# Altium schematic symbol library K66BLEZ1.SchLib: 1 symbol
Pins are listed as number, name and electrical type; pins without a type are passive.

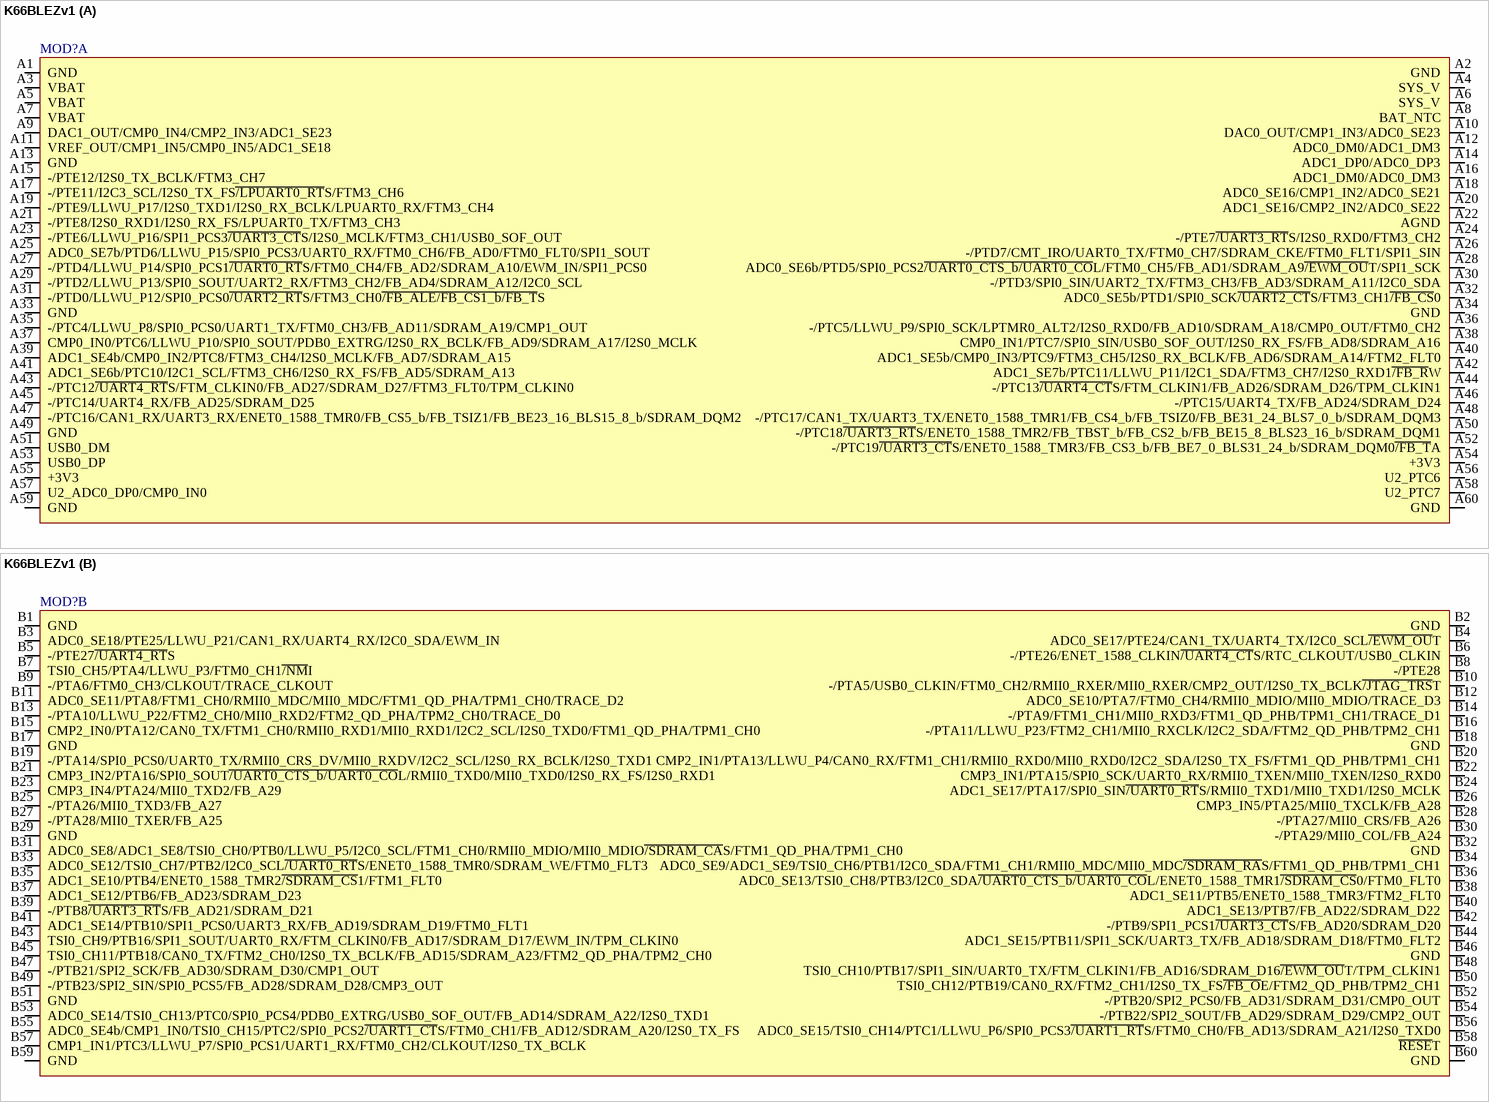
[diagram p0: symbol K66BLEZv1]

## K66BLEZv1
designator MOD?  (value not drawn)
K66BLEZv1; Manufacturer: BARDUVA; PartName: K66BLEZv1
footprint K66BLEZv1.0
part A pins: A1 GND, A2 GND, A3 VBAT "+3.3V", A4 SYS_V "+3.3V", A5 VBAT "+3.3V", A6 SYS_V "+3.3V", A7 VBAT "+5V", A8 BAT_NTC "+5V", A9 DAC1_OUT/CMP0_IN4/CMP2_IN3/ADC1_SE23 (io) "Default=(DAC1_OUT/CMP0_IN4/CMP2_IN3/ADC1_SE23)  ALT0=(DAC1_OUT/CMP0_IN4/CMP2_IN3/ADC1_SE23)  ALT1=()  ALT2=()  ALT3=()  ALT4=()  ALT5=()  ALT6=()  ALT7=()  EZPort=()", A10 DAC0_OUT/CMP1_IN3/ADC0_SE23 (io) "Default=(DAC0_OUT/CMP1_IN3/ADC0_SE23)  ALT0=(DAC0_OUT/CMP1_IN3/ADC0_SE23)  ALT1=()  ALT2=()  ALT3=()  ALT4=()  ALT5=()  ALT6=()  ALT7=()  EZPort=()", A11 VREF_OUT/CMP1_IN5/CMP0_IN5/ADC1_SE18 (io) "Default=(VREF_OUT/CMP1_IN5/CMP0_IN5/ADC1_SE18)  ALT0=(VREF_OUT/CMP1_IN5/CMP0_IN5/ADC1_SE18)  ALT1=()  ALT2=()  ALT3=()  ALT4=()  ALT5=()  ALT6=()  ALT7=()  EZPort=()", A12 ADC0_DM0/ADC1_DM3 (io) "Default=(ADC0_DM0/ADC1_DM3)  ALT0=(ADC0_DM0/ADC1_DM3)  ALT1=()  ALT2=()  ALT3=()  ALT4=()  ALT5=()  ALT6=()  ALT7=()  EZPort=()", A13 GND "+5V", A14 ADC1_DP0/ADC0_DP3 (io) "Default=(ADC1_DP0/ADC0_DP3)  ALT0=(ADC1_DP0/ADC0_DP3)  ALT1=()  ALT2=()  ALT3=()  ALT4=()  ALT5=()  ALT6=()  ALT7=()  EZPort=()", A15 -/PTE12/I2S0_TX_BCLK/FTM3_CH7 (io) "Default=(DISABLED)  ALT0=()  ALT1=(PTE12)  ALT2=()  ALT3=()  ALT4=(I2S0_TX_BCLK)  ALT5=()  ALT6=(FTM3_CH7)  ALT7=()  EZPort=()", A16 ADC1_DM0/ADC0_DM3 (io) "Default=(ADC1_DM0/ADC0_DM3)  ALT0=(ADC1_DM0/ADC0_DM3)  ALT1=()  ALT2=()  ALT3=()  ALT4=()  ALT5=()  ALT6=()  ALT7=()  EZPort=()", A17 -/PTE11/I2C3_SCL/I2S0_TX_FS~{/LPUART0_RT}S/FTM3_CH6 (io) "Default=(DISABLED)  ALT0=()  ALT1=(PTE11)  ALT2=(I2C3_SCL)  ALT3=()  ALT4=(I2S0_TX_FS)  ALT5=(LPUART0_RTS_b)  ALT6=(FTM3_CH6)  ALT7=()  EZPort=()", A18 ADC0_SE16/CMP1_IN2/ADC0_SE21 (io) "Default=(ADC0_SE16/CMP1_IN2/ADC0_SE21)  ALT0=(ADC0_SE16/CMP1_IN2/ADC0_SE21)  ALT1=()  ALT2=()  ALT3=()  ALT4=()  ALT5=()  ALT6=()  ALT7=()  EZPort=()", A19 -/PTE9/LLWU_P17/I2S0_TXD1/I2S0_RX_BCLK/LPUART0_RX/FTM3_CH4 (io) "Default=(DISABLED)  ALT0=()  ALT1=(PTE9/LLWU_P17)  ALT2=(I2S0_TXD1)  ALT3=()  ALT4=(I2S0_RX_BCLK)  ALT5=(LPUART0_RX)  ALT6=(FTM3_CH4)  ALT7=()  EZPort=()", A20 ADC1_SE16/CMP2_IN2/ADC0_SE22 (io) "Default=(ADC1_SE16/CMP2_IN2/ADC0_SE22)  ALT0=(ADC1_SE16/CMP2_IN2/ADC0_SE22)  ALT1=()  ALT2=()  ALT3=()  ALT4=()  ALT5=()  ALT6=()  ALT7=()  EZPort=()", A21 -/PTE8/I2S0_RXD1/I2S0_RX_FS/LPUART0_TX/FTM3_CH3 (io) "Default=(DISABLED)  ALT0=()  ALT1=(PTE8)  ALT2=(I2S0_RXD1)  ALT3=()  ALT4=(I2S0_RX_FS)  ALT5=(LPUART0_TX)  ALT6=(FTM3_CH3)  ALT7=()  EZPort=()", A22 AGND "GND", A23 -/PTE6/LLWU_P16/SPI1_PCS3~{/UART3_CT}S/I2S0_MCLK/FTM3_CH1/USB0_SOF_OUT (io) "Default=(DISABLED)  ALT0=()  ALT1=(PTE6/LLWU_P16)  ALT2=(SPI1_PCS3)  ALT3=(UART3_CTS_b)  ALT4=(I2S0_MCLK)  ALT5=()  ALT6=(FTM3_CH1)  ALT7=(USB0_SOF_OUT)  EZPort=()", A24 -/PTE7~{/UART3_RT}S/I2S0_RXD0/FTM3_CH2 (io) "Default=(DISABLED)  ALT0=()  ALT1=(PTE7)  ALT2=()  ALT3=(UART3_RTS_b)  ALT4=(I2S0_RXD0)  ALT5=()  ALT6=(FTM3_CH2)  ALT7=()  EZPort=()", A25 ADC0_SE7b/PTD6/LLWU_P15/SPI0_PCS3/UART0_RX/FTM0_CH6/FB_AD0/FTM0_FLT0/SPI1_SOUT (io) "Default=(ADC0_SE7b)  ALT0=(ADC0_SE7b)  ALT1=(PTD6/LLWU_P15)  ALT2=(SPI0_PCS3)  ALT3=(UART0_RX)  ALT4=(FTM0_CH6)  ALT5=(FB_AD0)  ALT6=(FTM0_FLT0)  ALT7=(SPI1_SOUT)  EZPort=()", A26 -/PTD7/CMT_IRO/UART0_TX/FTM0_CH7/SDRAM_CKE/FTM0_FLT1/SPI1_SIN (io) "Default=(DISABLED)  ALT0=()  ALT1=(PTD7)  ALT2=(CMT_IRO)  ALT3=(UART0_TX)  ALT4=(FTM0_CH7)  ALT5=(SDRAM_CKE)  ALT6=(FTM0_FLT1)  ALT7=(SPI1_SIN)  EZPort=()", A27 -/PTD4/LLWU_P14/SPI0_PCS1~{/UART0_RT}S/FTM0_CH4/FB_AD2/SDRAM_A10/EWM_IN/SPI1_PCS0 (io) "Default=(DISABLED)  ALT0=()  ALT1=(PTD4/LLWU_P14)  ALT2=(SPI0_PCS1)  ALT3=(UART0_RTS_b)  ALT4=(FTM0_CH4)  ALT5=(FB_AD2/SDRAM_A10)  ALT6=(EWM_IN)  ALT7=(SPI1_PCS0)  EZPort=()", A28 ADC0_SE6b/PTD5/SPI0_PCS2~{/UART0_CTS_b/UART0_CO}L/FTM0_CH5/FB_AD1/SDRAM_A9~{/EWM_OU}T/SPI1_SCK (io) "Default=(ADC0_SE6b)  ALT0=(ADC0_SE6b)  ALT1=(PTD5)  ALT2=(SPI0_PCS2)  ALT3=(UART0_CTS_b/UART0_COL_b)  ALT4=(FTM0_CH5)  ALT5=(FB_AD1/SDRAM_A9)  ALT6=(EWM_OUT_b)  ALT7=(SPI1_SCK)  EZPort=()", A29 -/PTD2/LLWU_P13/SPI0_SOUT/UART2_RX/FTM3_CH2/FB_AD4/SDRAM_A12/I2C0_SCL (io) "Default=(DISABLED)  ALT0=()  ALT1=(PTD2/LLWU_P13)  ALT2=(SPI0_SOUT)  ALT3=(UART2_RX)  ALT4=(FTM3_CH2)  ALT5=(FB_AD4/SDRAM_A12)  ALT6=()  ALT7=(I2C0_SCL)  EZPort=()", A30 -/PTD3/SPI0_SIN/UART2_TX/FTM3_CH3/FB_AD3/SDRAM_A11/I2C0_SDA (io) "Default=(DISABLED)  ALT0=()  ALT1=(PTD3)  ALT2=(SPI0_SIN)  ALT3=(UART2_TX)  ALT4=(FTM3_CH3)  ALT5=(FB_AD3/SDRAM_A11)  ALT6=()  ALT7=(I2C0_SDA)  EZPort=()", A31 -/PTD0/LLWU_P12/SPI0_PCS0~{/UART2_RT}S/FTM3_CH0~{/FB_ALE/FB_CS1_b/FB_T}S (io) "Default=(DISABLED)  ALT0=()  ALT1=(PTD0/LLWU_P12)  ALT2=(SPI0_PCS0)  ALT3=(UART2_RTS_b)  ALT4=(FTM3_CH0)  ALT5=(FB_ALE/FB_CS1_b/FB_TS_b)  ALT6=()  ALT7=()  EZPort=()", A32 ADC0_SE5b/PTD1/SPI0_SCK~{/UART2_CT}S/FTM3_CH1~{/FB_CS}0 (io) "Default=(ADC0_SE5b)  ALT0=(ADC0_SE5b)  ALT1=(PTD1)  ALT2=(SPI0_SCK)  ALT3=(UART2_CTS_b)  ALT4=(FTM3_CH1)  ALT5=(FB_CS0_b)  ALT6=()  ALT7=()  EZPort=()", A33 GND "+5V", A34 GND, A35 -/PTC4/LLWU_P8/SPI0_PCS0/UART1_TX/FTM0_CH3/FB_AD11/SDRAM_A19/CMP1_OUT (io) "Default=(DISABLED)  ALT0=()  ALT1=(PTC4/LLWU_P8)  ALT2=(SPI0_PCS0)  ALT3=(UART1_TX)  ALT4=(FTM0_CH3)  ALT5=(FB_AD11/SDRAM_A19)  ALT6=(CMP1_OUT)  ALT7=()  EZPort=()", A36 -/PTC5/LLWU_P9/SPI0_SCK/LPTMR0_ALT2/I2S0_RXD0/FB_AD10/SDRAM_A18/CMP0_OUT/FTM0_CH2 (io) "Default=(DISABLED)  ALT0=()  ALT1=(PTC5/LLWU_P9)  ALT2=(SPI0_SCK)  ALT3=(LPTMR0_ALT2)  ALT4=(I2S0_RXD0)  ALT5=(FB_AD10/SDRAM_A18)  ALT6=(CMP0_OUT)  ALT7=(FTM0_CH2)  EZPort=()", A37 CMP0_IN0/PTC6/LLWU_P10/SPI0_SOUT/PDB0_EXTRG/I2S0_RX_BCLK/FB_AD9/SDRAM_A17/I2S0_MCLK (io) "Default=(CMP0_IN0)  ALT0=(CMP0_IN0)  ALT1=(PTC6/LLWU_P10)  ALT2=(SPI0_SOUT)  ALT3=(PDB0_EXTRG)  ALT4=(I2S0_RX_BCLK)  ALT5=(FB_AD9/SDRAM_A17)  ALT6=(I2S0_MCLK)  ALT7=()  EZPort=()", A38 CMP0_IN1/PTC7/SPI0_SIN/USB0_SOF_OUT/I2S0_RX_FS/FB_AD8/SDRAM_A16 (io) "Default=(CMP0_IN1)  ALT0=(CMP0_IN1)  ALT1=(PTC7)  ALT2=(SPI0_SIN)  ALT3=(USB0_SOF_OUT)  ALT4=(I2S0_RX_FS)  ALT5=(FB_AD8/SDRAM_A16)  ALT6=()  ALT7=()  EZPort=()", A39 ADC1_SE4b/CMP0_IN2/PTC8/FTM3_CH4/I2S0_MCLK/FB_AD7/SDRAM_A15 (io) "Default=(ADC1_SE4b/CMP0_IN2)  ALT0=(ADC1_SE4b/CMP0_IN2)  ALT1=(PTC8)  ALT2=()  ALT3=(FTM3_CH4)  ALT4=(I2S0_MCLK)  ALT5=(FB_AD7/SDRAM_A15)  ALT6=()  ALT7=()  EZPort=()", A40 ADC1_SE5b/CMP0_IN3/PTC9/FTM3_CH5/I2S0_RX_BCLK/FB_AD6/SDRAM_A14/FTM2_FLT0 (io) "Default=(ADC1_SE5b/CMP0_IN3)  ALT0=(ADC1_SE5b/CMP0_IN3)  ALT1=(PTC9)  ALT2=()  ALT3=(FTM3_CH5)  ALT4=(I2S0_RX_BCLK)  ALT5=(FB_AD6/SDRAM_A14)  ALT6=(FTM2_FLT0)  ALT7=()  EZPort=()", A41 ADC1_SE6b/PTC10/I2C1_SCL/FTM3_CH6/I2S0_RX_FS/FB_AD5/SDRAM_A13 (io) "Default=(ADC1_SE6b)  ALT0=(ADC1_SE6b)  ALT1=(PTC10)  ALT2=(I2C1_SCL)  ALT3=(FTM3_CH6)  ALT4=(I2S0_RX_FS)  ALT5=(FB_AD5/SDRAM_A13)  ALT6=()  ALT7=()  EZPort=()", A42 ADC1_SE7b/PTC11/LLWU_P11/I2C1_SDA/FTM3_CH7/I2S0_RXD1~{/FB_R}W (io) "Default=(ADC1_SE7b)  ALT0=(ADC1_SE7b)  ALT1=(PTC11/LLWU_P11)  ALT2=(I2C1_SDA)  ALT3=(FTM3_CH7)  ALT4=(I2S0_RXD1)  ALT5=(FB_RW_b)  ALT6=()  ALT7=()  EZPort=()", A43 -/PTC12~{/UART4_RT}S/FTM_CLKIN0/FB_AD27/SDRAM_D27/FTM3_FLT0/TPM_CLKIN0 (io) "Default=(DISABLED)  ALT0=()  ALT1=(PTC12)  ALT2=()  ALT3=(UART4_RTS_b)  ALT4=(FTM_CLKIN0)  ALT5=(FB_AD27/SDRAM_D27)  ALT6=(FTM3_FLT0)  ALT7=(TPM_CLKIN0)  EZPort=()", A44 -/PTC13~{/UART4_CT}S/FTM_CLKIN1/FB_AD26/SDRAM_D26/TPM_CLKIN1 (io) "Default=(DISABLED)  ALT0=()  ALT1=(PTC13)  ALT2=()  ALT3=(UART4_CTS_b)  ALT4=(FTM_CLKIN1)  ALT5=(FB_AD26/SDRAM_D26)  ALT6=()  ALT7=(TPM_CLKIN1)  EZPort=()", A45 -/PTC14/UART4_RX/FB_AD25/SDRAM_D25 (io) "Default=(DISABLED)  ALT0=()  ALT1=(PTC14)  ALT2=()  ALT3=(UART4_RX)  ALT4=()  ALT5=(FB_AD25/SDRAM_D25)  ALT6=()  ALT7=()  EZPort=()", A46 -/PTC15/UART4_TX/FB_AD24/SDRAM_D24 (io) "Default=(DISABLED)  ALT0=()  ALT1=(PTC15)  ALT2=()  ALT3=(UART4_TX)  ALT4=()  ALT5=(FB_AD24/SDRAM_D24)  ALT6=()  ALT7=()  EZPort=()", A47 -/PTC16/CAN1_RX/UART3_RX/ENET0_1588_TMR0/FB_CS5_b/FB_TSIZ1/FB_BE23_16_BLS15_8_b/SDRAM_DQM2 (io) "Default=(DISABLED)  ALT0=()  ALT1=(PTC16)  ALT2=(CAN1_RX)  ALT3=(UART3_RX)  ALT4=(ENET0_1588_TMR0)  ALT5=(FB_CS5_b/FB_TSIZ1/FB_BE23_16_BLS15_8_b/SDRAM_DQM2)  ALT6=()  ALT7=()  EZPort=()", A48 -/PTC17/CAN1_TX/UART3_TX/ENET0_1588_TMR1/FB_CS4_b/FB_TSIZ0/FB_BE31_24_BLS7_0_b/SDRAM_DQM3 (io) "Default=(DISABLED)  ALT0=()  ALT1=(PTC17)  ALT2=(CAN1_TX)  ALT3=(UART3_TX)  ALT4=(ENET0_1588_TMR1)  ALT5=(FB_CS4_b/FB_TSIZ0/FB_BE31_24_BLS7_0_b/SDRAM_DQM3)  ALT6=()  ALT7=()  EZPort=()", A49 GND "+5V", A50 -/PTC18~{/UART3_RT}S/ENET0_1588_TMR2/FB_TBST_b/FB_CS2_b/FB_BE15_8_BLS23_16_b/SDRAM_DQM1 (io) "Default=(DISABLED)  ALT0=()  ALT1=(PTC18)  ALT2=()  ALT3=(UART3_RTS_b)  ALT4=(ENET0_1588_TMR2)  ALT5=(FB_TBST_b/FB_CS2_b/FB_BE15_8_BLS23_16_b/SDRAM_DQM1)  ALT6=()  ALT7=()  EZPort=()", A51 USB0_DM (io) "Default=(USB0_DM)  ALT0=(USB0_DM)  ALT1=()  ALT2=()  ALT3=()  ALT4=()  ALT5=()  ALT6=()  ALT7=()  EZPort=()", A52 -/PTC19~{/UART3_CT}S/ENET0_1588_TMR3/FB_CS3_b/FB_BE7_0_BLS31_24_b/SDRAM_DQM0~{/FB_T}A (io) "Default=(DISABLED)  ALT0=()  ALT1=(PTC19)  ALT2=()  ALT3=(UART3_CTS_b)  ALT4=(ENET0_1588_TMR3)  ALT5=(FB_CS3_b/FB_BE7_0_BLS31_24_b/SDRAM_DQM0)  ALT6=(FB_TA_b)  ALT7=()  EZPort=()", A53 USB0_DP (io) "Default=(USB0_DP)  ALT0=(USB0_DP)  ALT1=()  ALT2=()  ALT3=()  ALT4=()  ALT5=()  ALT6=()  ALT7=()  EZPort=()", A54 +3V3 "GND", A55 +3V3 "+5V", A56 U2_PTC6 "GND", A57 U2_ADC0_DP0/CMP0_IN0 "+5V", A58 U2_PTC7 "GND", A59 GND "+5V", A60 GND
part B pins: B1 GND, B2 GND, B3 ADC0_SE18/PTE25/LLWU_P21/CAN1_RX/UART4_RX/I2C0_SDA/EWM_IN (io) "Default=(ADC0_SE18)  ALT0=(ADC0_SE18)  ALT1=(PTE25/LLWU_P21)  ALT2=(CAN1_RX)  ALT3=(UART4_RX)  ALT4=()  ALT5=(I2C0_SDA)  ALT6=(EWM_IN)  ALT7=()  EZPort=()", B4 ADC0_SE17/PTE24/CAN1_TX/UART4_TX/I2C0_SCL~{/EWM_OU}T (io) "Default=(ADC0_SE17)  ALT0=(ADC0_SE17)  ALT1=(PTE24)  ALT2=(CAN1_TX)  ALT3=(UART4_TX)  ALT4=()  ALT5=(I2C0_SCL)  ALT6=(EWM_OUT_b)  ALT7=()  EZPort=()", B5 -/PTE27~{/UART4_RT}S (io) "Default=(DISABLED)  ALT0=()  ALT1=(PTE27)  ALT2=()  ALT3=(UART4_RTS_b)  ALT4=()  ALT5=()  ALT6=()  ALT7=()  EZPort=()", B6 -/PTE26/ENET_1588_CLKIN~{/UART4_CT}S/RTC_CLKOUT/USB0_CLKIN (io) "Default=(DISABLED)  ALT0=()  ALT1=(PTE26)  ALT2=(ENET_1588_CLKIN)  ALT3=(UART4_CTS_b)  ALT4=()  ALT5=()  ALT6=(RTC_CLKOUT)  ALT7=(USB0_CLKIN)  EZPort=()", B7 TSI0_CH5/PTA4/LLWU_P3/FTM0_CH1~{/NM}I (io) "Default=(NMI_b/EZP_CS_b)  ALT0=(TSI0_CH5)  ALT1=(PTA4/LLWU_P3)  ALT2=()  ALT3=(FTM0_CH1)  ALT4=()  ALT5=()  ALT6=()  ALT7=(NMI_b)  EZPort=(EZP_CS_b)", B8 -/PTE28 (io) "Default=(DISABLED)  ALT0=()  ALT1=(PTE28)  ALT2=()  ALT3=()  ALT4=()  ALT5=()  ALT6=()  ALT7=()  EZPort=()", B9 -/PTA6/FTM0_CH3/CLKOUT/TRACE_CLKOUT (io) "Default=(DISABLED)  ALT0=()  ALT1=(PTA6)  ALT2=()  ALT3=(FTM0_CH3)  ALT4=()  ALT5=(CLKOUT)  ALT6=()  ALT7=(TRACE_CLKOUT)  EZPort=()", B10 -/PTA5/USB0_CLKIN/FTM0_CH2/RMII0_RXER/MII0_RXER/CMP2_OUT/I2S0_TX_BCLK~{/JTAG_TRS}T (io) "Default=(DISABLED)  ALT0=()  ALT1=(PTA5)  ALT2=(USB0_CLKIN)  ALT3=(FTM0_CH2)  ALT4=(RMII0_RXER/MII0_RXER)  ALT5=(CMP2_OUT)  ALT6=(I2S0_TX_BCLK)  ALT7=(JTAG_TRST_b)  EZPort=()", B11 ADC0_SE11/PTA8/FTM1_CH0/RMII0_MDC/MII0_MDC/FTM1_QD_PHA/TPM1_CH0/TRACE_D2 (io) "Default=(ADC0_SE11)  ALT0=(ADC0_SE11)  ALT1=(PTA8)  ALT2=()  ALT3=(FTM1_CH0)  ALT4=()  ALT5=(RMII0_MDC/MII0_MDC)  ALT6=(FTM1_QD_PHA/TPM1_CH0)  ALT7=(TRACE_D2)  EZPort=()", B12 ADC0_SE10/PTA7/FTM0_CH4/RMII0_MDIO/MII0_MDIO/TRACE_D3 (io) "Default=(ADC0_SE10)  ALT0=(ADC0_SE10)  ALT1=(PTA7)  ALT2=()  ALT3=(FTM0_CH4)  ALT4=()  ALT5=(RMII0_MDIO/MII0_MDIO)  ALT6=()  ALT7=(TRACE_D3)  EZPort=()", B13 -/PTA10/LLWU_P22/FTM2_CH0/MII0_RXD2/FTM2_QD_PHA/TPM2_CH0/TRACE_D0 (io) "Default=(DISABLED)  ALT0=()  ALT1=(PTA10/LLWU_P22)  ALT2=()  ALT3=(FTM2_CH0)  ALT4=(MII0_RXD2)  ALT5=()  ALT6=(FTM2_QD_PHA/TPM2_CH0)  ALT7=(TRACE_D0)  EZPort=()", B14 -/PTA9/FTM1_CH1/MII0_RXD3/FTM1_QD_PHB/TPM1_CH1/TRACE_D1 (io) "Default=(DISABLED)  ALT0=()  ALT1=(PTA9)  ALT2=()  ALT3=(FTM1_CH1)  ALT4=(MII0_RXD3)  ALT5=()  ALT6=(FTM1_QD_PHB/TPM1_CH1)  ALT7=(TRACE_D1)  EZPort=()", B15 CMP2_IN0/PTA12/CAN0_TX/FTM1_CH0/RMII0_RXD1/MII0_RXD1/I2C2_SCL/I2S0_TXD0/FTM1_QD_PHA/TPM1_CH0 (io) "Default=(CMP2_IN0)  ALT0=(CMP2_IN0)  ALT1=(PTA12)  ALT2=(CAN0_TX)  ALT3=(FTM1_CH0)  ALT4=(RMII0_RXD1/MII0_RXD1)  ALT5=(I2C2_SCL)  ALT6=(I2S0_TXD0)  ALT7=(FTM1_QD_PHA/TPM1_CH0)  EZPort=()", B16 -/PTA11/LLWU_P23/FTM2_CH1/MII0_RXCLK/I2C2_SDA/FTM2_QD_PHB/TPM2_CH1 (io) "Default=(DISABLED)  ALT0=()  ALT1=(PTA11/LLWU_P23)  ALT2=()  ALT3=(FTM2_CH1)  ALT4=(MII0_RXCLK)  ALT5=(I2C2_SDA)  ALT6=(FTM2_QD_PHB/TPM2_CH1)  ALT7=()  EZPort=()", B17 GND, B18 GND, B19 -/PTA14/SPI0_PCS0/UART0_TX/RMII0_CRS_DV/MII0_RXDV/I2C2_SCL/I2S0_RX_BCLK/I2S0_TXD1 (io) "Default=(DISABLED)  ALT0=()  ALT1=(PTA14)  ALT2=(SPI0_PCS0)  ALT3=(UART0_TX)  ALT4=(RMII0_CRS_DV/MII0_RXDV)  ALT5=(I2C2_SCL)  ALT6=(I2S0_RX_BCLK)  ALT7=(I2S0_TXD1)  EZPort=()", B20 CMP2_IN1/PTA13/LLWU_P4/CAN0_RX/FTM1_CH1/RMII0_RXD0/MII0_RXD0/I2C2_SDA/I2S0_TX_FS/FTM1_QD_PHB/TPM1_CH1 (io) "Default=(CMP2_IN1)  ALT0=(CMP2_IN1)  ALT1=(PTA13/LLWU_P4)  ALT2=(CAN0_RX)  ALT3=(FTM1_CH1)  ALT4=(RMII0_RXD0/MII0_RXD0)  ALT5=(I2C2_SDA)  ALT6=(I2S0_TX_FS)  ALT7=(FTM1_QD_PHB/TPM1_CH1)  EZPort=()", B21 CMP3_IN2/PTA16/SPI0_SOUT~{/UART0_CTS_b/UART0_CO}L/RMII0_TXD0/MII0_TXD0/I2S0_RX_FS/I2S0_RXD1 (io) "Default=(CMP3_IN2)  ALT0=(CMP3_IN2)  ALT1=(PTA16)  ALT2=(SPI0_SOUT)  ALT3=(UART0_CTS_b/UART0_COL_b)  ALT4=(RMII0_TXD0/MII0_TXD0)  ALT5=()  ALT6=(I2S0_RX_FS)  ALT7=(I2S0_RXD1)  EZPort=()", B22 CMP3_IN1/PTA15/SPI0_SCK/UART0_RX/RMII0_TXEN/MII0_TXEN/I2S0_RXD0 (io) "Default=(CMP3_IN1)  ALT0=(CMP3_IN1)  ALT1=(PTA15)  ALT2=(SPI0_SCK)  ALT3=(UART0_RX)  ALT4=(RMII0_TXEN/MII0_TXEN)  ALT5=()  ALT6=(I2S0_RXD0)  ALT7=()  EZPort=()", B23 CMP3_IN4/PTA24/MII0_TXD2/FB_A29 (io) "Default=(CMP3_IN4)  ALT0=(CMP3_IN4)  ALT1=(PTA24)  ALT2=()  ALT3=()  ALT4=(MII0_TXD2)  ALT5=()  ALT6=(FB_A29)  ALT7=()  EZPort=()", B24 ADC1_SE17/PTA17/SPI0_SIN~{/UART0_RT}S/RMII0_TXD1/MII0_TXD1/I2S0_MCLK (io) "Default=(ADC1_SE17)  ALT0=(ADC1_SE17)  ALT1=(PTA17)  ALT2=(SPI0_SIN)  ALT3=(UART0_RTS_b)  ALT4=(RMII0_TXD1/MII0_TXD1)  ALT5=()  ALT6=(I2S0_MCLK)  ALT7=()  EZPort=()", B25 -/PTA26/MII0_TXD3/FB_A27 (io) "Default=(DISABLED)  ALT0=()  ALT1=(PTA26)  ALT2=()  ALT3=()  ALT4=(MII0_TXD3)  ALT5=()  ALT6=(FB_A27)  ALT7=()  EZPort=()", B26 CMP3_IN5/PTA25/MII0_TXCLK/FB_A28 (io) "Default=(CMP3_IN5)  ALT0=(CMP3_IN5)  ALT1=(PTA25)  ALT2=()  ALT3=()  ALT4=(MII0_TXCLK)  ALT5=()  ALT6=(FB_A28)  ALT7=()  EZPort=()", B27 -/PTA28/MII0_TXER/FB_A25 (io) "Default=(DISABLED)  ALT0=()  ALT1=(PTA28)  ALT2=()  ALT3=()  ALT4=(MII0_TXER)  ALT5=()  ALT6=(FB_A25)  ALT7=()  EZPort=()", B28 -/PTA27/MII0_CRS/FB_A26 (io) "Default=(DISABLED)  ALT0=()  ALT1=(PTA27)  ALT2=()  ALT3=()  ALT4=(MII0_CRS)  ALT5=()  ALT6=(FB_A26)  ALT7=()  EZPort=()", B29 GND, B30 -/PTA29/MII0_COL/FB_A24 (io) "Default=(DISABLED)  ALT0=()  ALT1=(PTA29)  ALT2=()  ALT3=()  ALT4=(MII0_COL)  ALT5=()  ALT6=(FB_A24)  ALT7=()  EZPort=()", B31 ADC0_SE8/ADC1_SE8/TSI0_CH0/PTB0/LLWU_P5/I2C0_SCL/FTM1_CH0/RMII0_MDIO/MII0_MDIO~{/SDRAM_CA}S/FTM1_QD_PHA/TPM1_CH0 (io) "Default=(ADC0_SE8/ADC1_SE8/TSI0_CH0)  ALT0=(ADC0_SE8/ADC1_SE8/TSI0_CH0)  ALT1=(PTB0/LLWU_P5)  ALT2=(I2C0_SCL)  ALT3=(FTM1_CH0)  ALT4=(RMII0_MDIO/MII0_MDIO)  ALT5=(SDRAM_CAS_b)  ALT6=(FTM1_QD_PHA/TPM1_CH0)  ALT7=()  EZPort=()", B32 GND, B33 ADC0_SE12/TSI0_CH7/PTB2/I2C0_SCL~{/UART0_RT}S/ENET0_1588_TMR0/SDRAM_WE/FTM0_FLT3 (io) "Default=(ADC0_SE12/TSI0_CH7)  ALT0=(ADC0_SE12/TSI0_CH7)  ALT1=(PTB2)  ALT2=(I2C0_SCL)  ALT3=(UART0_RTS_b)  ALT4=(ENET0_1588_TMR0)  ALT5=(SDRAM_WE)  ALT6=(FTM0_FLT3)  ALT7=()  EZPort=()", B34 ADC0_SE9/ADC1_SE9/TSI0_CH6/PTB1/I2C0_SDA/FTM1_CH1/RMII0_MDC/MII0_MDC~{/SDRAM_RA}S/FTM1_QD_PHB/TPM1_CH1 (io) "Default=(ADC0_SE9/ADC1_SE9/TSI0_CH6)  ALT0=(ADC0_SE9/ADC1_SE9/TSI0_CH6)  ALT1=(PTB1)  ALT2=(I2C0_SDA)  ALT3=(FTM1_CH1)  ALT4=(RMII0_MDC/MII0_MDC)  ALT5=(SDRAM_RAS_b)  ALT6=(FTM1_QD_PHB/TPM1_CH1)  ALT7=()  EZPort=()", B35 ADC1_SE10/PTB4/ENET0_1588_TMR2~{/SDRAM_CS}1/FTM1_FLT0 (io) "Default=(ADC1_SE10)  ALT0=(ADC1_SE10)  ALT1=(PTB4)  ALT2=()  ALT3=()  ALT4=(ENET0_1588_TMR2)  ALT5=(SDRAM_CS1_b)  ALT6=(FTM1_FLT0)  ALT7=()  EZPort=()", B36 ADC0_SE13/TSI0_CH8/PTB3/I2C0_SDA~{/UART0_CTS_b/UART0_CO}L/ENET0_1588_TMR1~{/SDRAM_CS}0/FTM0_FLT0 (io) "Default=(ADC0_SE13/TSI0_CH8)  ALT0=(ADC0_SE13/TSI0_CH8)  ALT1=(PTB3)  ALT2=(I2C0_SDA)  ALT3=(UART0_CTS_b/UART0_COL_b)  ALT4=(ENET0_1588_TMR1)  ALT5=(SDRAM_CS0_b)  ALT6=(FTM0_FLT0)  ALT7=()  EZPort=()", B37 ADC1_SE12/PTB6/FB_AD23/SDRAM_D23 (io) "Default=(ADC1_SE12)  ALT0=(ADC1_SE12)  ALT1=(PTB6)  ALT2=()  ALT3=()  ALT4=()  ALT5=(FB_AD23/SDRAM_D23)  ALT6=()  ALT7=()  EZPort=()", B38 ADC1_SE11/PTB5/ENET0_1588_TMR3/FTM2_FLT0 (io) "Default=(ADC1_SE11)  ALT0=(ADC1_SE11)  ALT1=(PTB5)  ALT2=()  ALT3=()  ALT4=(ENET0_1588_TMR3)  ALT5=()  ALT6=(FTM2_FLT0)  ALT7=()  EZPort=()", B39 -/PTB8~{/UART3_RT}S/FB_AD21/SDRAM_D21 (io) "Default=(DISABLED)  ALT0=()  ALT1=(PTB8)  ALT2=()  ALT3=(UART3_RTS_b)  ALT4=()  ALT5=(FB_AD21/SDRAM_D21)  ALT6=()  ALT7=()  EZPort=()", B40 ADC1_SE13/PTB7/FB_AD22/SDRAM_D22 (io) "Default=(ADC1_SE13)  ALT0=(ADC1_SE13)  ALT1=(PTB7)  ALT2=()  ALT3=()  ALT4=()  ALT5=(FB_AD22/SDRAM_D22)  ALT6=()  ALT7=()  EZPort=()", B41 ADC1_SE14/PTB10/SPI1_PCS0/UART3_RX/FB_AD19/SDRAM_D19/FTM0_FLT1 (io) "Default=(ADC1_SE14)  ALT0=(ADC1_SE14)  ALT1=(PTB10)  ALT2=(SPI1_PCS0)  ALT3=(UART3_RX)  ALT4=()  ALT5=(FB_AD19/SDRAM_D19)  ALT6=(FTM0_FLT1)  ALT7=()  EZPort=()", B42 -/PTB9/SPI1_PCS1~{/UART3_CT}S/FB_AD20/SDRAM_D20 (io) "Default=(DISABLED)  ALT0=()  ALT1=(PTB9)  ALT2=(SPI1_PCS1)  ALT3=(UART3_CTS_b)  ALT4=()  ALT5=(FB_AD20/SDRAM_D20)  ALT6=()  ALT7=()  EZPort=()", B43 TSI0_CH9/PTB16/SPI1_SOUT/UART0_RX/FTM_CLKIN0/FB_AD17/SDRAM_D17/EWM_IN/TPM_CLKIN0 (io) "Default=(TSI0_CH9)  ALT0=(TSI0_CH9)  ALT1=(PTB16)  ALT2=(SPI1_SOUT)  ALT3=(UART0_RX)  ALT4=(FTM_CLKIN0)  ALT5=(FB_AD17/SDRAM_D17)  ALT6=(EWM_IN)  ALT7=(TPM_CLKIN0)  EZPort=()", B44 ADC1_SE15/PTB11/SPI1_SCK/UART3_TX/FB_AD18/SDRAM_D18/FTM0_FLT2 (io) "Default=(ADC1_SE15)  ALT0=(ADC1_SE15)  ALT1=(PTB11)  ALT2=(SPI1_SCK)  ALT3=(UART3_TX)  ALT4=()  ALT5=(FB_AD18/SDRAM_D18)  ALT6=(FTM0_FLT2)  ALT7=()  EZPort=()", B45 TSI0_CH11/PTB18/CAN0_TX/FTM2_CH0/I2S0_TX_BCLK/FB_AD15/SDRAM_A23/FTM2_QD_PHA/TPM2_CH0 (io) "Default=(TSI0_CH11)  ALT0=(TSI0_CH11)  ALT1=(PTB18)  ALT2=(CAN0_TX)  ALT3=(FTM2_CH0)  ALT4=(I2S0_TX_BCLK)  ALT5=(FB_AD15/SDRAM_A23)  ALT6=(FTM2_QD_PHA/TPM2_CH0)  ALT7=()  EZPort=()", B46 GND, B47 -/PTB21/SPI2_SCK/FB_AD30/SDRAM_D30/CMP1_OUT (io) "Default=(DISABLED)  ALT0=()  ALT1=(PTB21)  ALT2=(SPI2_SCK)  ALT3=()  ALT4=()  ALT5=(FB_AD30/SDRAM_D30)  ALT6=(CMP1_OUT)  ALT7=()  EZPort=()", B48 TSI0_CH10/PTB17/SPI1_SIN/UART0_TX/FTM_CLKIN1/FB_AD16/SDRAM_D16~{/EWM_OU}T/TPM_CLKIN1 (io) "Default=(TSI0_CH10)  ALT0=(TSI0_CH10)  ALT1=(PTB17)  ALT2=(SPI1_SIN)  ALT3=(UART0_TX)  ALT4=(FTM_CLKIN1)  ALT5=(FB_AD16/SDRAM_D16)  ALT6=(EWM_OUT_b)  ALT7=(TPM_CLKIN1)  EZPort=()", B49 -/PTB23/SPI2_SIN/SPI0_PCS5/FB_AD28/SDRAM_D28/CMP3_OUT (io) "Default=(DISABLED)  ALT0=()  ALT1=(PTB23)  ALT2=(SPI2_SIN)  ALT3=(SPI0_PCS5)  ALT4=()  ALT5=(FB_AD28/SDRAM_D28)  ALT6=(CMP3_OUT)  ALT7=()  EZPort=()", B50 TSI0_CH12/PTB19/CAN0_RX/FTM2_CH1/I2S0_TX_FS~{/FB_O}E/FTM2_QD_PHB/TPM2_CH1 (io) "Default=(TSI0_CH12)  ALT0=(TSI0_CH12)  ALT1=(PTB19)  ALT2=(CAN0_RX)  ALT3=(FTM2_CH1)  ALT4=(I2S0_TX_FS)  ALT5=(FB_OE_b)  ALT6=(FTM2_QD_PHB/TPM2_CH1)  ALT7=()  EZPort=()", B51 GND, B52 -/PTB20/SPI2_PCS0/FB_AD31/SDRAM_D31/CMP0_OUT (io) "Default=(DISABLED)  ALT0=()  ALT1=(PTB20)  ALT2=(SPI2_PCS0)  ALT3=()  ALT4=()  ALT5=(FB_AD31/SDRAM_D31)  ALT6=(CMP0_OUT)  ALT7=()  EZPort=()", B53 ADC0_SE14/TSI0_CH13/PTC0/SPI0_PCS4/PDB0_EXTRG/USB0_SOF_OUT/FB_AD14/SDRAM_A22/I2S0_TXD1 (io) "Default=(ADC0_SE14/TSI0_CH13)  ALT0=(ADC0_SE14/TSI0_CH13)  ALT1=(PTC0)  ALT2=(SPI0_PCS4)  ALT3=(PDB0_EXTRG)  ALT4=(USB0_SOF_OUT)  ALT5=(FB_AD14/SDRAM_A22)  ALT6=(I2S0_TXD1)  ALT7=()  EZPort=()", B54 -/PTB22/SPI2_SOUT/FB_AD29/SDRAM_D29/CMP2_OUT (io) "Default=(DISABLED)  ALT0=()  ALT1=(PTB22)  ALT2=(SPI2_SOUT)  ALT3=()  ALT4=()  ALT5=(FB_AD29/SDRAM_D29)  ALT6=(CMP2_OUT)  ALT7=()  EZPort=()", B55 ADC0_SE4b/CMP1_IN0/TSI0_CH15/PTC2/SPI0_PCS2~{/UART1_CT}S/FTM0_CH1/FB_AD12/SDRAM_A20/I2S0_TX_FS (io) "Default=(ADC0_SE4b/CMP1_IN0/TSI0_CH15)  ALT0=(ADC0_SE4b/CMP1_IN0/TSI0_CH15)  ALT1=(PTC2)  ALT2=(SPI0_PCS2)  ALT3=(UART1_CTS_b)  ALT4=(FTM0_CH1)  ALT5=(FB_AD12/SDRAM_A20)  ALT6=(I2S0_TX_FS)  ALT7=()  EZPort=()", B56 ADC0_SE15/TSI0_CH14/PTC1/LLWU_P6/SPI0_PCS3~{/UART1_RT}S/FTM0_CH0/FB_AD13/SDRAM_A21/I2S0_TXD0 (io) "Default=(ADC0_SE15/TSI0_CH14)  ALT0=(ADC0_SE15/TSI0_CH14)  ALT1=(PTC1/LLWU_P6)  ALT2=(SPI0_PCS3)  ALT3=(UART1_RTS_b)  ALT4=(FTM0_CH0)  ALT5=(FB_AD13/SDRAM_A21)  ALT6=(I2S0_TXD0)  ALT7=()  EZPort=()", B57 CMP1_IN1/PTC3/LLWU_P7/SPI0_PCS1/UART1_RX/FTM0_CH2/CLKOUT/I2S0_TX_BCLK (io) "Default=(CMP1_IN1)  ALT0=(CMP1_IN1)  ALT1=(PTC3/LLWU_P7)  ALT2=(SPI0_PCS1)  ALT3=(UART1_RX)  ALT4=(FTM0_CH2)  ALT5=(CLKOUT)  ALT6=(I2S0_TX_BCLK)  ALT7=()  EZPort=()", B58 ~{RESE}T (io) "Default=(RESET_b)  ALT0=(RESET_b)  ALT1=()  ALT2=()  ALT3=()  ALT4=()  ALT5=()  ALT6=()  ALT7=()  EZPort=()", B59 GND, B60 GND